# Altium footprint library PcbLib1.PcbLib: 2 footprints
Each footprint in its own frame and in the unit in brackets; x right, y up, seen from the top. Pads: shape width x height; smd on the part's side, far side on the other; paste and mask are expansions set on the pad; w line width, h text height; cw(c..) or ccw(c..) is an arc to the next point about the centre after c.
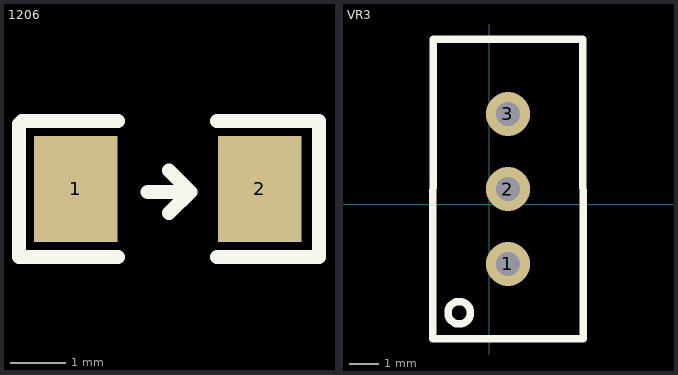
[diagram p0: the footprints below, top view; thin cyan lines are the x and y axes]

## 1206 [mil]
pads (2):
  rect 59.06x75 smd: 1(-371,-1173) 2(-241,-1173)
Top Overlay:
  lines w10: -341,-1221 -411,-1221 -411,-1127 -409,-1125 -341,-1125 ; -320,-1175 -290,-1175 ; -305,-1190 -290,-1175 ; -305,-1160 -290,-1175 ; -271,-1221 -199,-1221 -199,-1177 -199,-1125 -271,-1125
3D body "User Library-RES_3216-1206.STEP": height 33.46, standoff 0, extent -372.94,-1207 -241.06,-1138.89

## VR3 [mm]
pads (3):
  round 1.5 hole 0.8: 1(0.635,-2.032) 2(0.635,0.508) 3(0.635,3.048)
Top Overlay:
  circle w0.254: c-1.016,-3.683 r0.381
  lines w0.254: -1.905,-4.572 -1.905,5.588 3.175,5.588 3.175,-4.572 -1.905,-4.572